# Altium schematic symbol library Power_components.SchLib: 3 symbols
Pins are listed as number, name and electrical type; pins without a type are passive.

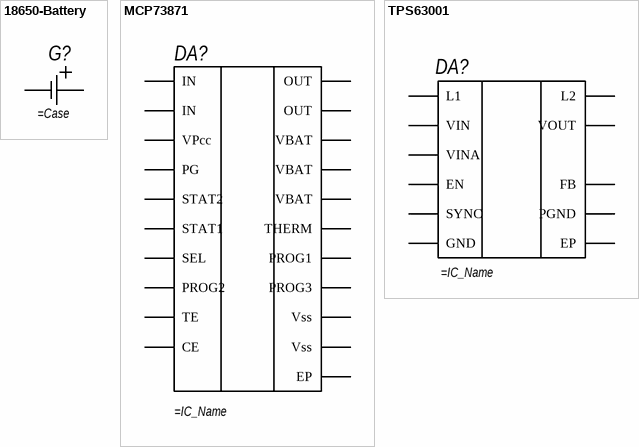
[diagram p0: symbols 18650-Battery to TPS63001]

## 18650-Battery
designator G?
pins: Minus, Plus

## MCP73871
designator DA?
pins: 1 OUT, 2 VPcc, 3 SEL, 4 PROG2, 5 THERM, 6 PG, 7 STAT2, 8 STAT1, 9 TE, 10 Vss, 11 Vss, 12 PROG3, 13 PROG1, 14 VBAT, 15 VBAT, 16 VBAT, 17 CE, 18 IN, 19 IN, 20 OUT, 21 EP

## TPS63001
designator DA?
pins: 1 VOUT, 2 L2, 3 PGND, 4 L1, 5 VIN, 6 EN, 7 SYNC, 8 VINA, 9 GND, 10 FB, 11 EP